# Altium footprint library DFN-14 (4x3).PcbLib: 1 footprints
Each footprint in its own frame and in the unit in brackets; x right, y up, seen from the top. Pads: shape width x height; smd on the part's side, far side on the other; paste and mask are expansions set on the pad; w line width, h text height; cw(c..) or ccw(c..) is an arc to the next point about the centre after c.
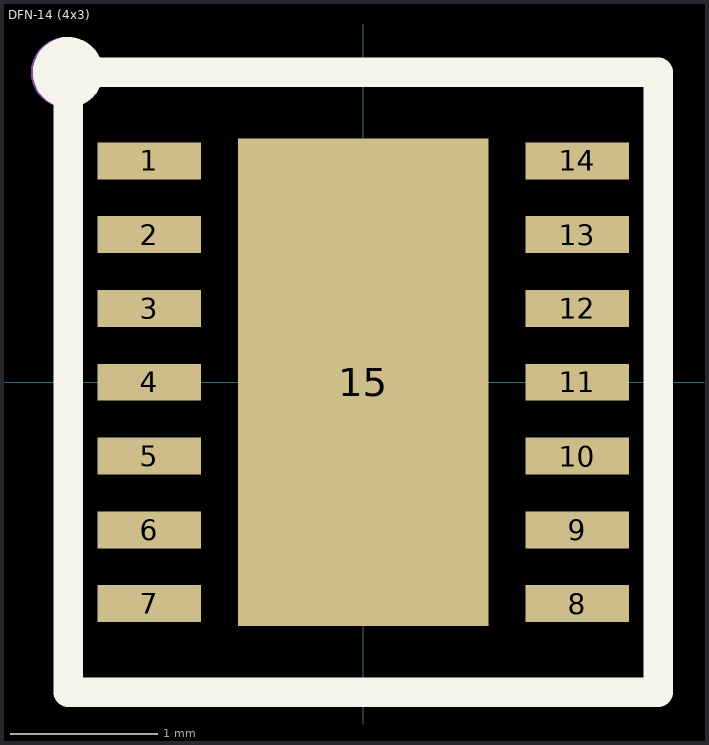
[diagram p0: the footprint, top view; thin cyan lines are the x and y axes]

## DFN-14 (4x3) [mm]
pads (15):
  rect 0.7x0.25 smd mask+0.05: 1(-1.45,1.5) 2(-1.45,1) 3(-1.45,0.5) 4(-1.45,0) 5(-1.45,-0.5) 6(-1.45,-1) 7(-1.45,-1.5) 8(1.45,-1.5) 9(1.45,-1) 10(1.45,-0.5) 11(1.45,0) 12(1.45,0.5) 13(1.45,1) 14(1.45,1.5)
  rect 1.7x3.3 smd mask+0.05: 15(0,0)
Top Overlay:
  circle w0.254: c-2,2.1 r0.112
  lines w0.2: -2,-2.1 -2,2.1 2,2.1 2,-2.1 -2,-2.1
Top Assembly:
  circle w0.254: c-2.013,2.1 r0.112
  lines w0.1: -2,-2.1 2,-2.1 2,2.1 -2,2.1 -2,-2.1
  text "'.Designator'" at 0,0 h0.7
3D body "DFN-14 (4x3).stp": height 0.8, standoff 0, extent -1.5,-2 1.5,2